# EAGLE library part STC15W204S (library tmxk)
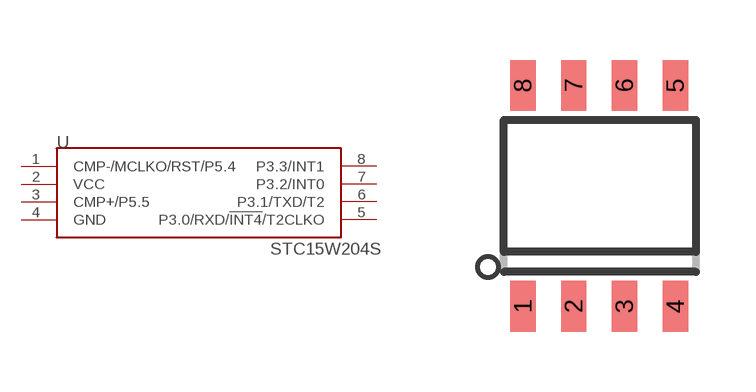
[diagram p7: symbol with the pads of SOP8; footprint SOP8]

Designator prefix U

## STC15W204S  [SOP8]
1  CMP-/MCLKO/RST/P5.4
2  VCC
3  CMP+/P5.5
4  GND
5  P3.0/RXD/!INT4!/T2CLKO
6  P3.1/TXD/T2
7  P3.2/INT0
8  P3.3/INT1

## Footprint SOP8 (pad centres in mm)
Small Outline Package 8 NS Package M08A
smd 0.635 x 1.27: 1 -1.925,-2.76; 2 -0.655,-2.76; 3 0.615,-2.76; 4 1.885,-2.76; 5 1.885,2.76; 6 0.615,2.76; 7 -0.655,2.76; 8 -1.925,2.76